# EAGLE library part PQ20WZ (library LM1117)
VOLTAGE REGULATOR Sharp PQ20WZ51 / PQ20WZ11
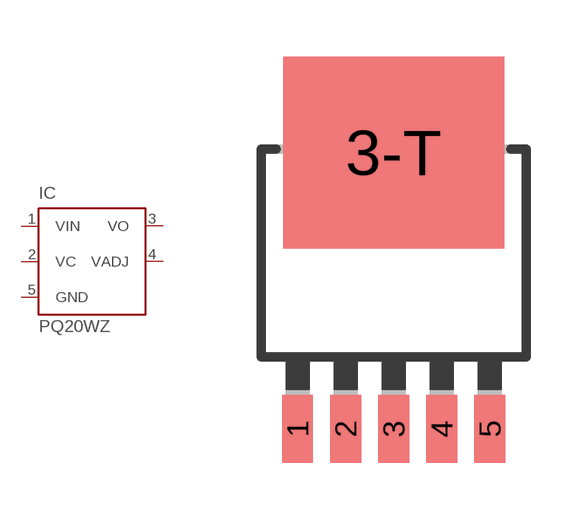
[diagram p5: symbol with the pads of SC63-5; footprint SC63-5]

Designator prefix IC

## PQ20WZ  [SC63-5]
1  VIN  in
2  VC  in
3  VO  out
3-T  VO-3  out
4  VADJ  pas
5  GND  pwr

## Footprint SC63-5 (pad centres in mm)
SO63-5 Sharp
smd 0.813 x 1.8: 1 -2.54,-5.397; 2 -1.27,-5.397; 3 0,-5.397; 4 1.27,-5.397; 5 2.54,-5.397
smd 5.842 x 5.08: 3-T 0,1.905